# Altium schematic symbol library CFS-20632768EZBB.SchLib: 1 symbol
Pins are listed as number, name and electrical type; pins without a type are passive.

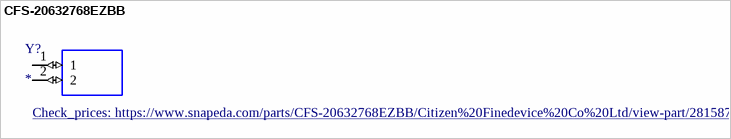
[diagram p0: symbol CFS-20632768EZBB]

## CFS-20632768EZBB
designator Y?
32.768kHz Â±10ppm Crystal 6pF 35 kOhms Cylindrical Can, Radial; MP: CFS-20632768EZBB; MF: Citizen Finedevice; SnapEDA_Link: https://www.snapeda.com/parts/CFS-20632768EZBB/Citizen%20Finedevice%20Co%20Ltd/view-part/2815870/?ref=snap; Availability: Warning; Package: Cylindrical Can Radial  Citizen Finetech Miyota; Price: None; Value: *; Purchase-URL: https://pricing.snapeda.com/search/part/CFS-20632768EZBB/?ref=eda; Check_prices: https://www.snapeda.com/parts/CFS-20632768EZBB/Citizen%20Finedevice%20Co%20Ltd/view-part/2815870/?ref=eda
footprint CFS20632768EZBB
pins: 1 (io), 2 (io)